# Altium schematic symbol library LM62BIM3XNOPB.SchLib: 2 symbols
Pins are listed as number, name and electrical type; pins without a type are passive.

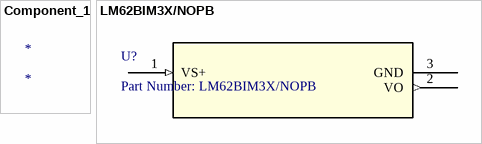
[diagram p0: symbols Component_1 to LM62BIM3X/NOPB]

## Component_1
designator *

## LM62BIM3X/NOPB
designator U?, comment Part Number: LM62BIM3X/NOPB
No Description Available; Vendor: Texas Instruments; Built_By: EMA_UL_Team; Manufacturer_Part_Number: LM62BIM3X/NOPB; Copyright: Copyright (C) 2018 Accelerated Designs. All rights reserved; RefDes: RefDes; Type: DEV; Value: Value
footprint MF03A
pins: 1 VS+ (in), 2 VO (out), 3 GND